# EAGLE library part 5051102491 (library 5051102491)
CONN FFC/FPC BOTTOM 24P .5MM R/A Source: Datasheet <https://www.molex.com/webdocs/datasheets/pdf/en-us/5051102491_FFC_FPC_CONNECTORS.pdf>
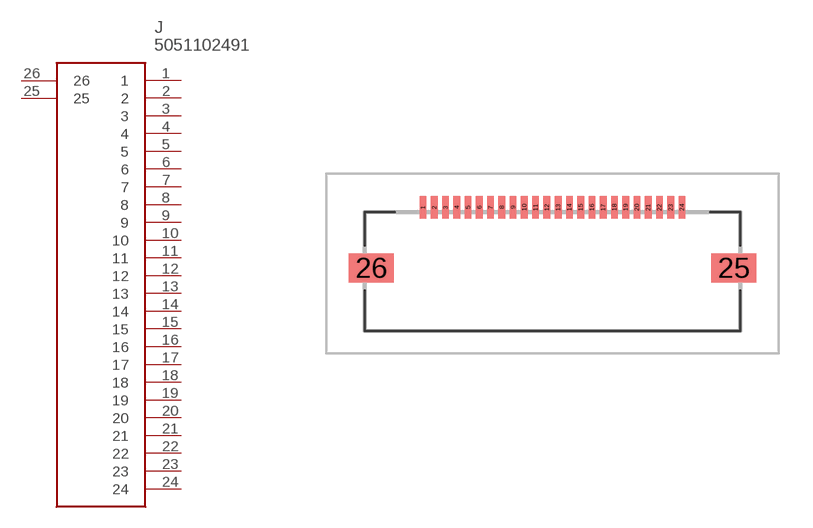
[diagram p0: symbol with the pads of 5051102491; footprint 5051102491]

Designator prefix J

## 5051102491 (Description: CONN FFC/FPC BOTTOM 24P .5MM R/A; Height: 4.06mm; Manufacturer_Name: Molex; Manufacturer_Part_Number: 5051102491)  [5051102491]
1  1
2  2
3  3
4  4
5  5
6  6
7  7
8  8
9  9
10  10
11  11
12  12
13  13
14  14
15  15
16  16
17  17
18  18
19  19
20  20
21  21
22  22
23  23
24  24
25  25
26  26

## Footprint 5051102491 (pad centres in mm)
5051102491-1
smd 0.3 x 1: 1 -5.75,2.7; 2 -5.25,2.7; 3 -4.75,2.7; 4 -4.25,2.7; 5 -3.75,2.7; 6 -3.25,2.7; 7 -2.75,2.7; 8 -2.25,2.7; 9 -1.75,2.7; 10 -1.25,2.7; 11 -0.75,2.7; 12 -0.25,2.7; 13 0.25,2.7; 14 0.75,2.7; 15 1.25,2.7; 16 1.75,2.7; 17 2.25,2.7; 18 2.75,2.7; 19 3.25,2.7; 20 3.75,2.7; 21 4.25,2.7; 22 4.75,2.7; 23 5.25,2.7; 24 5.75,2.7
smd 2 x 1.3: 25 8.05,0; 26 -8.05,0